# Altium footprint library ZZB_Lib.PcbLib: 83 footprints (part 3 of 6)
Each footprint in its own frame and in the unit in brackets; x right, y up, seen from the top. Pads: shape width x height; smd on the part's side, far side on the other; paste and mask are expansions set on the pad; w line width, h text height; cw(c..) or ccw(c..) is an arc to the next point about the centre after c.
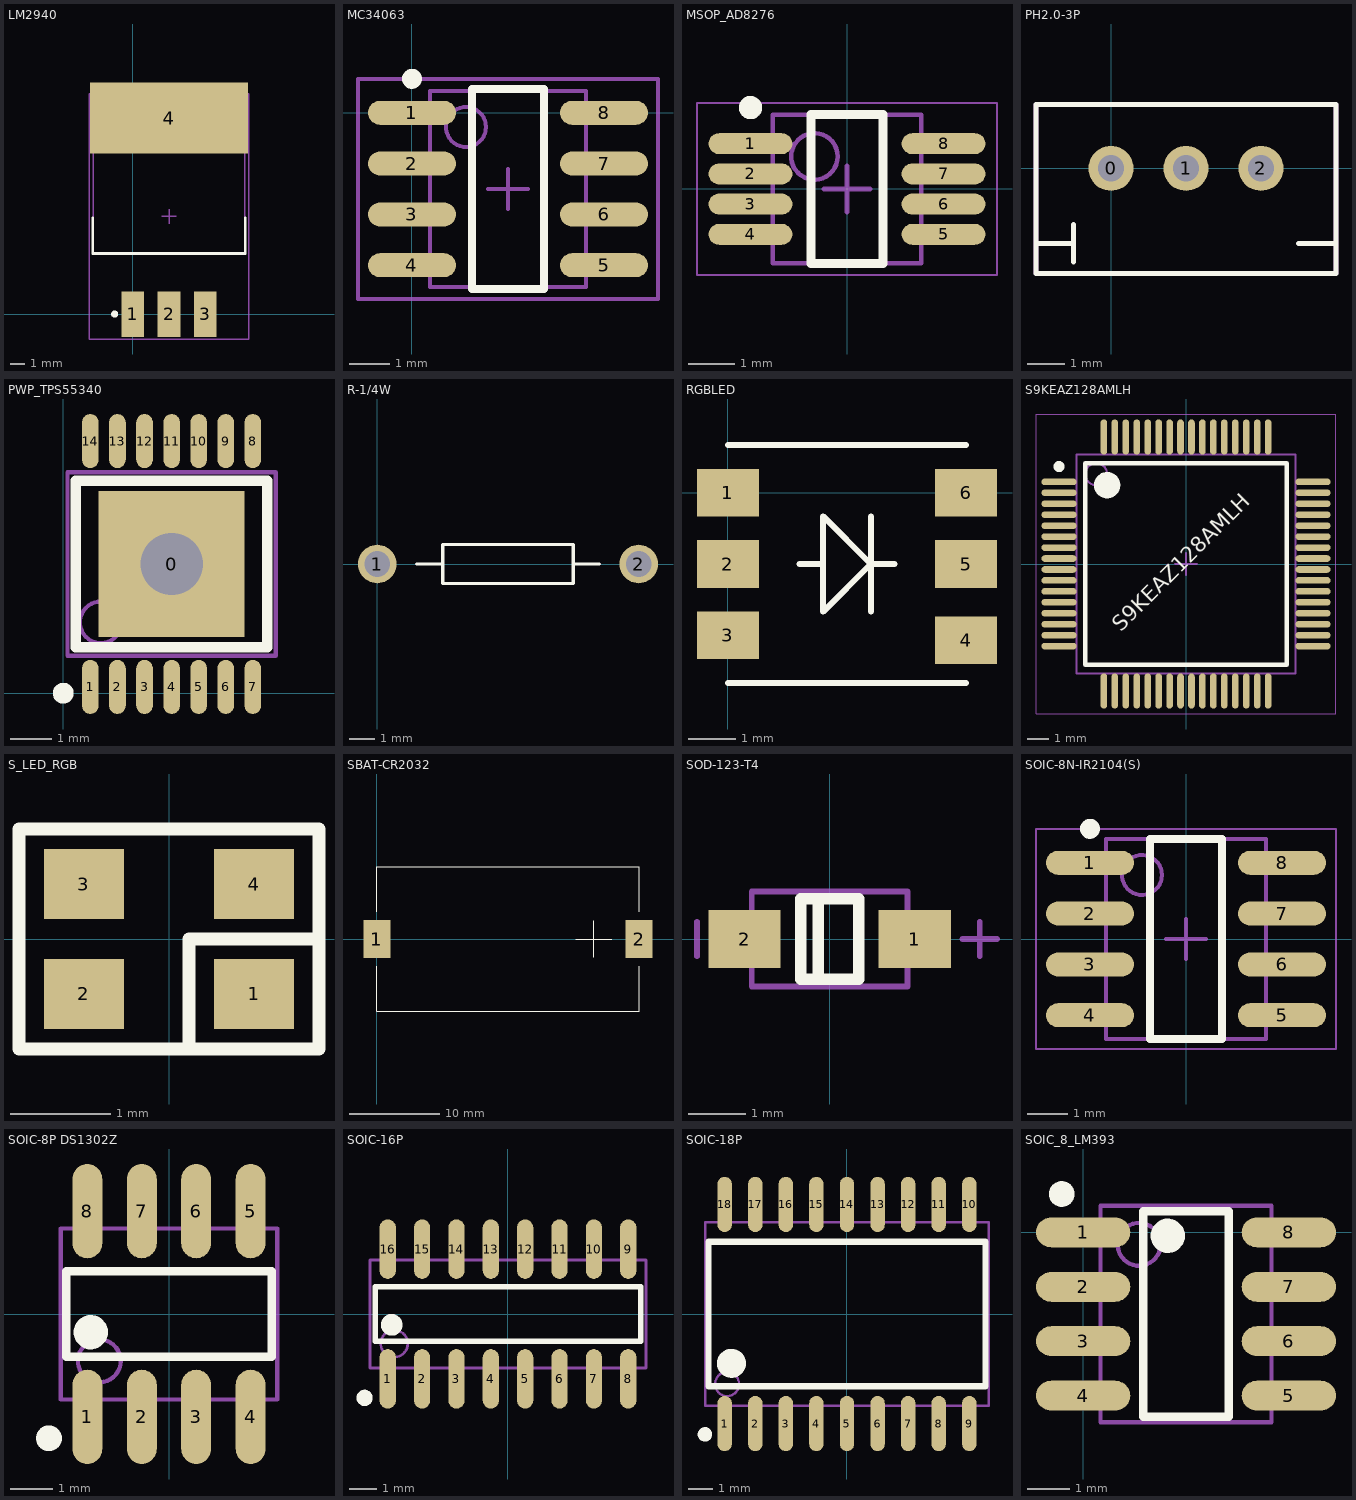
[diagram p2: the footprints below, top view; thin cyan lines are the x and y axes]

## LM2940 [mm]
pads (4):
  rect 1.6x3.2 smd: 1(0,0) 2(2.54,0) 3(5.08,0)
  rect 11.1x5 smd: 4(2.552,13.76)
Top Overlay:
  circle w0.25: c-1.275,0 r0.125
  lines w0.2: -2.81,6.75 -2.81,4.25 7.89,4.25 7.89,6.75
Mechanical 13:
  lines w0.1: -2.785,4.25 -2.785,13.91 7.865,13.91 7.865,4.25 -2.785,4.25
Mechanical 15:
  lines w0.1: 2.04,6.85 3.04,6.85 ; 2.54,6.35 2.54,7.35 ; -3.06,-1.75 -3.06,15.45 8.14,15.45 8.14,-1.75 -3.06,-1.75
3D body: height 4.8, standoff 0.38, extent -2.785,4.25 7.865,13.91

## MC34063 [mm]
pads (8):
  oval 2.2x0.6 smd: 1(0,0) 2(0,-1.27) 3(0,-2.54) 4(0,-3.81) 5(4.8,-3.81) 6(4.8,-2.54) 7(4.8,-1.27) 8(4.8,0)
Top Overlay:
  circle w0.25: c0,0.85 r0.125
  lines w0.2: 1.5,-4.405 3.3,-4.405 3.3,0.595 1.5,0.595 1.5,-4.405
Mechanical 13:
  circle w0.1: c1.35,-0.355 r0.5
  lines w0.1: 0.45,-4.355 4.35,-4.355 4.35,0.545 0.45,0.545 0.45,-4.355
Mechanical 15:
  lines w0.1: 1.9,-1.905 2.9,-1.905 ; 2.4,-2.405 2.4,-1.405 ; -1.35,-4.655 6.15,-4.655 6.15,0.845 -1.35,0.845 -1.35,-4.655
3D body: height 1.75, standoff 0, extent 0.45,-4.355 4.35,0.545

## MSOP_AD8276 [mm] "TSOP, 8-Leads, Body 3.00x3.00mm, Pitch 0.65mm, IPC Medium Density"
height 1.1
pads (8):
  oval 1.8x0.45 smd: 1(-2.075,0.975) 2(-2.075,0.325) 3(-2.075,-0.325) 4(-2.075,-0.975) 5(2.075,-0.975) 6(2.075,-0.325) 7(2.075,0.325) 8(2.075,0.975)
Top Overlay:
  circle w0.25: c-2.075,1.75 r0.125
  lines w0.2: -0.775,-1.6 0.775,-1.6 0.775,1.6 -0.775,1.6 -0.775,-1.6
Mechanical 13:
  circle w0.1: c-0.7,0.7 r0.5
  lines w0.1: -1.6,-1.6 1.6,-1.6 1.6,1.6 -1.6,1.6 -1.6,-1.6
Mechanical 15:
  lines w0.05: -3.225,-1.85 3.225,-1.85 3.225,1.85 -3.225,1.85 -3.225,-1.85
  lines w0.1: -0.5,0 0.5,0 ; 0,-0.5 0,0.5
3D body: height 1.1, standoff 0.75, extent -1.6,-1.6 1.6,1.6

## PH2.0-3P [mm]
height 6
pads (3):
  round 1.2 hole 0.7: 0(0,0) 1(2,0) 2(4,0)
Top Overlay:
  lines w0.127: -2,-2 -1,-2 ; -1,-2.5 -1,-1.5 ; 5,-2 6,-2 ; -2,-2.8 -2,1.7 6,1.7 6,-2.8 -2,-2.8
Mechanical 15:
  lines w0.127: -2,-2.8 -2,1.7 6,1.7 6,-2.8 -2,-2.8

## PWP_TPS55340 [mm]
pads (15):
  rect 3.5x3.5 hole 1.5 mask+0.051: 0(2.6,3.1)
  oval 0.4x1.3 smd mask+0.051: 1(0.65,0.15) 2(1.3,0.15) 3(1.95,0.15) 4(2.6,0.15) 5(3.25,0.15) 6(3.9,0.15) 7(4.55,0.15) 8(4.55,6.05) 9(3.9,6.05) 10(3.25,6.05) 11(2.6,6.05) 12(1.95,6.05) 13(1.3,6.05) 14(0.65,6.05)
Top Overlay:
  circle w0.25: c0,0 r0.125
  lines w0.254: 0.3,1.1 0.3,5.1 4.9,5.1 4.9,1.1 0.3,1.1
Mechanical 13:
  circle w0.1: c0.9,1.7 r0.5
  lines w0.1: 0.1,0.9 0.1,5.3 5.1,5.3 5.1,0.9 0.1,0.9

## R-1/4W [mm]
pads (2):
  round 1.5 hole 1: 1(0,0) 2(10.16,0)
Top Overlay:
  lines w0.127: 1.524,0 2.54,0 ; 7.62,0 8.636,0 ; 2.54,0 2.54,-0.762 7.62,-0.762 7.62,0.762 2.54,0.762 2.54,0

## RGBLED [mm]
pads (6):
  rect 1.3x1 smd: 1(0,0) 2(0,-1.5) 3(0,-3) 4(5,-3.1) 5(5,-1.5) 6(5,0)
Top Overlay:
  lines w0.127: 0,-4 5,-4 ; 0,1 5,1 ; 1.5,-1.5 2,-1.5 ; 3,-2.5 3,-0.5 ; 3.5,-1.5 3,-1.5 ; 2,-0.5 2,-2.5 3,-1.5 ; 2,-0.5 2,-0.5 ; 2,-0.5 3,-1.5 ; 3,-1.5 3,-1.5

## S9KEAZ128AMLH [mm] "TSQFP, 64-Leads, Body 10.00x10.00mm, Pitch 0.50mm, IPC Medium Density"
height 1.6
pads (64):
  oval 1.6x0.3 smd: 1(-5.8,3.75) 2(-5.8,3.25) 3(-5.8,2.75) 4(-5.8,2.25) 5(-5.8,1.75) 6(-5.8,1.25) 7(-5.8,0.75) 8(-5.8,0.25) 9(-5.8,-0.25) 10(-5.8,-0.75) 11(-5.8,-1.25) 12(-5.8,-1.75) 13(-5.8,-2.25) 14(-5.8,-2.75) 15(-5.8,-3.25) 16(-5.8,-3.75) 33(5.8,-3.75) 34(5.8,-3.25) 35(5.8,-2.75) 36(5.8,-2.25) 37(5.8,-1.75) 38(5.8,-1.25) 39(5.8,-0.75) 40(5.8,-0.25) 41(5.8,0.25) 42(5.8,0.75) 43(5.8,1.25) 44(5.8,1.75) 45(5.8,2.25) 46(5.8,2.75) 47(5.8,3.25) 48(5.8,3.75)
  oval 0.3x1.6 smd: 17(-3.75,-5.8) 18(-3.25,-5.8) 19(-2.75,-5.8) 20(-2.25,-5.8) 21(-1.75,-5.8) 22(-1.25,-5.8) 23(-0.75,-5.8) 24(-0.25,-5.8) 25(0.25,-5.8) 26(0.75,-5.8) 27(1.25,-5.8) 28(1.75,-5.8) 29(2.25,-5.8) 30(2.75,-5.8) 31(3.25,-5.8) 32(3.75,-5.8) 49(3.75,5.8) 50(3.25,5.8) 51(2.75,5.8) 52(2.25,5.8) 53(1.75,5.8) 54(1.25,5.8) 55(0.75,5.8) 56(0.25,5.8) 57(-0.25,5.8) 58(-0.75,5.8) 59(-1.25,5.8) 60(-1.75,5.8) 61(-2.25,5.8) 62(-2.75,5.8) 63(-3.25,5.8) 64(-3.75,5.8)
Top Overlay:
  circle w0.6: c-3.6,3.6 r0.3
  circle w0.25: c-5.8,4.45 r0.125
  lines w0.2: -4.6,-4.6 4.6,-4.6 4.6,4.6 -4.6,4.6 -4.6,-4.6
  text "S9KEAZ128AMLH" at -2.794,-3.302 h1.2
Mechanical 13:
  circle w0.1: c-4.1,4.1 r0.5
  lines w0.1: -5,-5 5,-5 5,5 -5,5 -5,-5
Mechanical 15:
  lines w0.05: -6.85,-6.85 6.85,-6.85 6.85,6.85 -6.85,6.85 -6.85,-6.85
  lines w0.1: -0.5,0 0.5,0 ; 0,-0.5 0,0.5
3D body: height 1.6, standoff 0.08, extent -5,-5 5,5

## S_LED_RGB [mm]
pads (4):
  rect 0.8x0.7 smd: 1(0.85,-0.55) 2(-0.85,-0.55) 3(-0.85,0.55) 4(0.85,0.55)
Top Overlay:
  lines w0.127: 0.2,-1.1 0.2,0 1.5,0 ; -1.5,-1.1 1.5,-1.1 1.5,1.1 -1.5,1.1 -1.5,-1.1

## SBAT-CR2032 [mm]
pads (2):
  rect 3x4.2 smd: 1(0,0) 2(29,0)
Top Overlay:
  lines w0.127: 0,-3 0,-8 29,-8 29,-3 ; 0,3 0,8 29,8 29,3 ; 22,0 26,0 ; 24,-2 24,2

## SOD-123-T4 [mm]
pads (2):
  rect 1.25x1 smd: 1(1.475,0) 2(-1.475,0)
Top Overlay:
  lines w0.2: -0.2,-0.7 -0.2,0.7 ; -0.5,-0.7 -0.5,0.7 0.5,0.7 0.5,-0.7 -0.5,-0.7
Mechanical 13:
  lines w0.1: -1.35,-0.825 1.35,-0.825 1.35,0.825 -1.35,0.825 -1.35,-0.825
Mechanical 15:
  lines w0.1: -2.3,-0.3 -2.3,0.3 ; 2.3,0 2.9,0 ; 2.6,-0.3 2.6,0.3
3D body: height 1.35, standoff 0, extent -1.85,-0.775 1.85,0.775

## SOIC-8N-IR2104(S) [mm] "SOIC, 8-Leads, Body 4.90x3.90mm, Pitch 1.27mm, IPC Medium Density"
height 1.75
pads (8):
  oval 2.2x0.6 smd: 1(-2.4,1.905) 2(-2.4,0.635) 3(-2.4,-0.635) 4(-2.4,-1.905) 5(2.4,-1.905) 6(2.4,-0.635) 7(2.4,0.635) 8(2.4,1.905)
Top Overlay:
  circle w0.25: c-2.4,2.755 r0.125
  lines w0.2: -0.9,-2.5 -0.9,2.5 0.9,2.5 0.9,-2.5 -0.9,-2.5
Mechanical 13:
  circle w0.1: c-1.1,1.6 r0.5
  lines w0.1: -2,-2.5 -2,2.5 2,2.5 2,-2.5 -2,-2.5
Mechanical 15:
  lines w0.05: -3.75,-2.75 -3.75,2.75 3.75,2.75 3.75,-2.75 -3.75,-2.75
  lines w0.1: -0.5,0 0.5,0 ; 0,-0.5 0,0.5
3D body: height 1.75, standoff 0.1, extent -2,-2.5 2,2.5

## SOIC-8P DS1302Z [mm]
pads (8):
  oval 0.7x2.2 smd: 1(-1.905,-2.4) 2(-0.635,-2.4) 3(0.635,-2.4) 4(1.905,-2.4) 5(1.905,2.4) 6(0.635,2.4) 7(-0.635,2.4) 8(-1.905,2.4)
Top Overlay:
  circle w0.3: c-2.8,-2.9 r0.15
  circle w0.4: c-1.825,-0.425 r0.2
  lines w0.2: -2.4,-1 2.4,-1 2.4,1 -2.4,1 -2.4,-1
Mechanical 13:
  circle w0.1: c-1.625,-1.095 r0.5
  lines w0.1: -2.525,-1.995 2.525,-1.995 2.525,1.995 -2.525,1.995 -2.525,-1.995

## SOIC-16P [mm]
pads (16):
  oval 0.6x2.2 smd: 1(-4.445,-2.4) 2(-3.175,-2.4) 3(-1.905,-2.4) 4(-0.635,-2.4) 5(0.635,-2.4) 6(1.905,-2.4) 7(3.175,-2.4) 8(4.445,-2.4) 9(4.445,2.4) 10(3.175,2.4) 11(1.905,2.4) 12(0.635,2.4) 13(-0.635,2.4) 14(-1.905,2.4) 15(-3.175,2.4) 16(-4.445,2.4)
Top Overlay:
  circle w0.3: c-5.3,-3.1 r0.15
  circle w0.4: c-4.3,-0.4 r0.2
  lines w0.2: -4.9,-1 -4.9,1 4.9,1 4.9,-1 -4.9,-1
Mechanical 13:
  circle w0.1: c-4.205,-1.095 r0.5
  lines w0.1: -5.105,-1.995 -5.105,1.995 5.105,1.995 5.105,-1.995 -5.105,-1.995

## SOIC-18P [mm]
pads (18):
  oval 0.6x2.3 smd: 1(-5.08,-4.55) 2(-3.81,-4.55) 3(-2.54,-4.55) 4(-1.27,-4.55) 5(0,-4.55) 6(1.27,-4.55) 7(2.54,-4.55) 8(3.81,-4.55) 9(5.08,-4.55) 10(5.08,4.55) 11(3.81,4.55) 12(2.54,4.55) 13(1.27,4.55) 14(0,4.55) 15(-1.27,4.55) 16(-2.54,4.55) 17(-3.81,4.55) 18(-5.08,4.55)
Top Overlay:
  circle w0.6: c-4.8,-2.05 r0.3
  circle w0.3: c-5.9,-5 r0.15
  lines w0.254: -5.75,-3 5.75,-3 5.75,3 -5.75,3 -5.75,-3
Mechanical 13:
  circle w0.1: c-4.98,-2.91 r0.5
  lines w0.1: -5.88,-3.81 5.88,-3.81 5.88,3.81 -5.88,3.81 -5.88,-3.81

## SOIC_8_LM393 [mm]
pads (8):
  oval 2.2x0.7 smd: 1(0,0) 2(0,-1.27) 3(0,-2.54) 4(0,-3.81) 5(4.8,-3.81) 6(4.8,-2.54) 7(4.8,-1.27) 8(4.8,0)
Top Overlay:
  circle w0.3: c-0.5,0.895 r0.15
  circle w0.4: c1.975,-0.08 r0.2
  lines w0.2: 1.4,-4.305 1.4,0.495 3.4,0.495 3.4,-4.305 1.4,-4.305
Mechanical 13:
  circle w0.1: c1.305,-0.28 r0.5
  lines w0.1: 0.405,-4.43 0.405,0.62 4.395,0.62 4.395,-4.43 0.405,-4.43